# Altium footprint library EAX300_TesterControlBoard.PcbLib: 8 footprints
Each footprint in its own frame and in the unit in brackets; x right, y up, seen from the top. Pads: shape width x height; smd on the part's side, far side on the other; paste and mask are expansions set on the pad; w line width, h text height; cw(c..) or ccw(c..) is an arc to the next point about the centre after c.
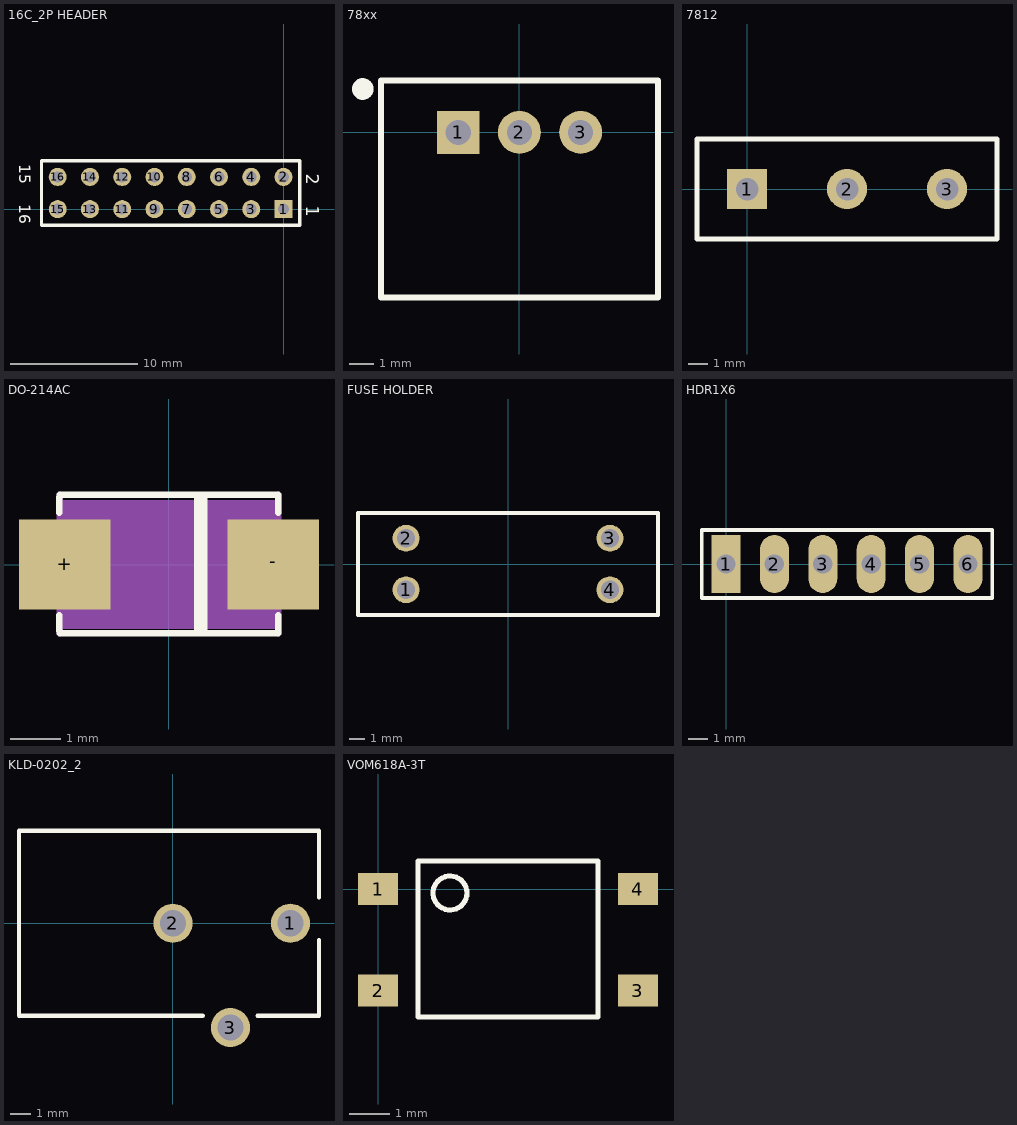
[diagram p0: the footprints below, top view; thin cyan lines are the x and y axes]

## 16C_2P HEADER [mil] "Connector; Header; 5x2 Position"
pads (16):
  rect 56x56 hole 34: 1(0,0)
  round 56 hole 34: 2(0,100) 3(-100,0) 4(-100,100) 5(-200,0) 6(-200,100) 7(-300,0) 8(-300,100) 9(-400,0) 10(-400,100) 11(-500,0) 12(-500,100) 13(-600,0) 14(-600,100) 15(-700,0) 16(-700,100)
Top Overlay:
  lines w10: -750,-50 50,-50 50,150 -750,150 -750,-50
  text "2" at 70,110 h40
  text "1" at 70,10 h40
  text "15" at -820,140 h35
  text "16" at -820,15 h35

## 78xx [mil] "3-Pin Voltage Regulator"
pads (3):
  rect 70x70 hole 41: 1(-100,0)
  round 70 hole 41 unplated: 2(0,0) 3(100,0)
Top Overlay:
  circle w19.68: c-255.91,70.87 r7.87
  lines w9.84: -226.38,-269.69 -226.38,84.65 226.38,84.65 226.38,-269.69
  lines w10: -226.38,-269.69 226.38,-269.69
3D body "CUI_VX7805-1000.step": height 690.94, standoff -159.45, extent -226.37,-268.1 226.38,86.23

## 7812 [mil] "3-PIN VOLTAGE REGULATOR"
pads (3):
  rect 80x80 hole 45: 1(0,0)
  round 80 hole 45: 2(200,0) 3(400,0)
Top Overlay:
  lines w10: -100,-100 500,-100 500,100 -100,100 -100,-100

## DO-214AC [mil]
height 374.02
pads (2):
  rect 71x70 smd: +(-80.39,0) -(81,0)
Top Overlay:
  region: 20,-53.15 30,-53.15 30,54 20,54
  lines w5: -84.65,-51.18 -84.65,-39.37 ; -84.65,40 -84.65,52 ; -84.45,-53.15 85,-53.15 ; -84.45,54 85,54 ; 85,-51.18 85,-39.37 ; 85,40 85,52
Mechanical 16:
  rectangle: -85,-50 85,50
  lines w5: -84.45,-53.15 -84.45,54 ; 85,-53.15 85,54

## FUSE HOLDER [mil]
height 29.53
pads (4):
  round 70 hole 47: 1(-265,-67) 2(-265,67) 3(265,67) 4(265,-67)
Top Overlay:
  lines w10: -390,-132.5 390,-132.5 390,132.5 -390,132.5 -390,-132.5

## HDR1X6 [mil] "Connector; Header; 6 Position"
height 374.02
pads (6):
  rect 60x120 hole 40: 1(0,0)
  oval 60x120 hole 40: 2(100,0) 3(200,0) 4(300,0) 5(400,0) 6(500,0)
Top Overlay:
  lines w7.87: -50,-70 550,-70 550,70 -50,70 -50,-70

## KLD-0202_2 [mil] "DC Power Jack, 2.5mm, KLD Series, PCB Mount"
height 29.53
pads (3):
  round 75 hole 50: 1(225,0) 2(0,0) 3(110,-200)
Top Overlay:
  lines w7.87: 57,-177.17 -295,-177.17 -295,177.17 279.8,177.17 279.8,49 ; 162,-177.17 279.8,-177.17 279.8,-32
3D body "SW3dPS-PowerJack-2.5x5.7mm.STEP": height 433.07, standoff -137.8, extent -338.58,-198.82 259.84,171.26

## VOM618A-3T [mm] "Single Opto-Isolator"
height 3.8
pads (4):
  rect 1x0.8 smd: 1(0,0) 2(0,-2.54) 3(6.5,-2.54) 4(6.5,0)
Top Overlay:
  circle w0.127: c1.8,-0.1 r0.424
  lines w0.127: 1,-3.2 1,0.7 5.5,0.7 5.5,-3.2 1,-3.2
3D body: height 3.8, standoff 0, extent 1.001,-3.199 5.499,0.699